# Altium footprint library BGA_Sq_100P.PcbLib: 114 footprints (part 20 of 31)
Each footprint in its own frame and in the unit in brackets; x right, y up, seen from the top. Pads: shape width x height; smd on the part's side, far side on the other; paste and mask are expansions set on the pad; w line width, h text height; cw(c..) or ccw(c..) is an arc to the next point about the centre after c.
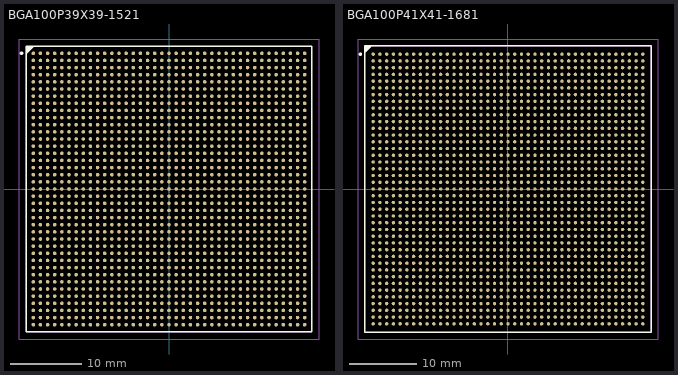
[diagram p19: the footprints below, top view; thin cyan lines are the x and y axes]

## BGA100P39X39-1521 [mm] "BGA, 1521-Leads, Body 40x40mm, Pitch 1mm"
height 3.5
pads (1521):
  round 0.5 smd: A1(-19,19) A2(-18,19) A3(-17,19) A4(-16,19) A5(-15,19) A6(-14,19) A7(-13,19) A8(-12,19) A9(-11,19) A10(-10,19) A11(-9,19) A12(-8,19) A13(-7,19) A14(-6,19) A15(-5,19) A16(-4,19) A17(-3,19) A18(-2,19) A19(-1,19) A20(0,19) A21(1,19) A22(2,19) A23(3,19) A24(4,19) A25(5,19) A26(6,19) A27(7,19) A28(8,19) A29(9,19) A30(10,19) A31(11,19) A32(12,19) A33(13,19) A34(14,19) A35(15,19) A36(16,19) A37(17,19) A38(18,19) A39(19,19) AA1(-19,-1) AA2(-18,-1) AA3(-17,-1) AA4(-16,-1) AA5(-15,-1) AA6(-14,-1) AA7(-13,-1) AA8(-12,-1) AA9(-11,-1) AA10(-10,-1) AA11(-9,-1) AA12(-8,-1) AA13(-7,-1) AA14(-6,-1) AA15(-5,-1) AA16(-4,-1) AA17(-3,-1) AA18(-2,-1) AA19(-1,-1) AA20(0,-1) AA21(1,-1) AA22(2,-1) AA23(3,-1) AA24(4,-1) AA25(5,-1) AA26(6,-1) AA27(7,-1) AA28(8,-1) AA29(9,-1) AA30(10,-1) AA31(11,-1) AA32(12,-1) AA33(13,-1) AA34(14,-1) AA35(15,-1) AA36(16,-1) AA37(17,-1) AA38(18,-1) AA39(19,-1) AB1(-19,-2) AB2(-18,-2) AB3(-17,-2) AB4(-16,-2) AB5(-15,-2) AB6(-14,-2) AB7(-13,-2) AB8(-12,-2) AB9(-11,-2) AB10(-10,-2) AB11(-9,-2) AB12(-8,-2) AB13(-7,-2) AB14(-6,-2) AB15(-5,-2) AB16(-4,-2) AB17(-3,-2) AB18(-2,-2) AB19(-1,-2) AB20(0,-2) AB21(1,-2) AB22(2,-2) AB23(3,-2) AB24(4,-2) AB25(5,-2) AB26(6,-2) AB27(7,-2) AB28(8,-2) AB29(9,-2) AB30(10,-2) AB31(11,-2) AB32(12,-2) AB33(13,-2) AB34(14,-2) AB35(15,-2) AB36(16,-2) AB37(17,-2) AB38(18,-2) AB39(19,-2) AC1(-19,-3) AC2(-18,-3) AC3(-17,-3) AC4(-16,-3) AC5(-15,-3) AC6(-14,-3) AC7(-13,-3) AC8(-12,-3) AC9(-11,-3) AC10(-10,-3) AC11(-9,-3) AC12(-8,-3) AC13(-7,-3) AC14(-6,-3) AC15(-5,-3) AC16(-4,-3) AC17(-3,-3) AC18(-2,-3) AC19(-1,-3) AC20(0,-3) AC21(1,-3) AC22(2,-3) AC23(3,-3) AC24(4,-3) AC25(5,-3) AC26(6,-3) AC27(7,-3) AC28(8,-3) AC29(9,-3) AC30(10,-3) AC31(11,-3) AC32(12,-3) AC33(13,-3) AC34(14,-3) AC35(15,-3) AC36(16,-3) AC37(17,-3) AC38(18,-3) AC39(19,-3) AD1(-19,-4) AD2(-18,-4) AD3(-17,-4) AD4(-16,-4) AD5(-15,-4) AD6(-14,-4) AD7(-13,-4) AD8(-12,-4) AD9(-11,-4) AD10(-10,-4) AD11(-9,-4) AD12(-8,-4) AD13(-7,-4) AD14(-6,-4) AD15(-5,-4) AD16(-4,-4) AD17(-3,-4) AD18(-2,-4) AD19(-1,-4) AD20(0,-4) AD21(1,-4) AD22(2,-4) AD23(3,-4) AD24(4,-4) AD25(5,-4) AD26(6,-4) AD27(7,-4) AD28(8,-4) AD29(9,-4) AD30(10,-4) AD31(11,-4) AD32(12,-4) AD33(13,-4) AD34(14,-4) AD35(15,-4) AD36(16,-4) AD37(17,-4) AD38(18,-4) AD39(19,-4) AE1(-19,-5) AE2(-18,-5) AE3(-17,-5) AE4(-16,-5) AE5(-15,-5) AE6(-14,-5) AE7(-13,-5) AE8(-12,-5) AE9(-11,-5) AE10(-10,-5) AE11(-9,-5) AE12(-8,-5) AE13(-7,-5) AE14(-6,-5) AE15(-5,-5) AE16(-4,-5) AE17(-3,-5) AE18(-2,-5) AE19(-1,-5) AE20(0,-5) AE21(1,-5) AE22(2,-5) AE23(3,-5) AE24(4,-5) AE25(5,-5) AE26(6,-5) AE27(7,-5) AE28(8,-5) AE29(9,-5) AE30(10,-5) AE31(11,-5) AE32(12,-5) AE33(13,-5) AE34(14,-5) AE35(15,-5) AE36(16,-5) AE37(17,-5) AE38(18,-5) AE39(19,-5) AF1(-19,-6) AF2(-18,-6) AF3(-17,-6) AF4(-16,-6) AF5(-15,-6) AF6(-14,-6) AF7(-13,-6) AF8(-12,-6) AF9(-11,-6) AF10(-10,-6) AF11(-9,-6) AF12(-8,-6) AF13(-7,-6) AF14(-6,-6) AF15(-5,-6) AF16(-4,-6) AF17(-3,-6) AF18(-2,-6) AF19(-1,-6) AF20(0,-6) AF21(1,-6) AF22(2,-6) AF23(3,-6) AF24(4,-6) AF25(5,-6) AF26(6,-6) AF27(7,-6) AF28(8,-6) AF29(9,-6) AF30(10,-6) AF31(11,-6) AF32(12,-6) AF33(13,-6) AF34(14,-6) AF35(15,-6) AF36(16,-6) AF37(17,-6) AF38(18,-6) AF39(19,-6) AG1(-19,-7) AG2(-18,-7) AG3(-17,-7) AG4(-16,-7) AG5(-15,-7) AG6(-14,-7) AG7(-13,-7) AG8(-12,-7) AG9(-11,-7) AG10(-10,-7) AG11(-9,-7) AG12(-8,-7) AG13(-7,-7) AG14(-6,-7) AG15(-5,-7) AG16(-4,-7) AG17(-3,-7) AG18(-2,-7) AG19(-1,-7) AG20(0,-7) AG21(1,-7) AG22(2,-7) AG23(3,-7) AG24(4,-7) AG25(5,-7) AG26(6,-7) AG27(7,-7) AG28(8,-7) AG29(9,-7) AG30(10,-7) AG31(11,-7) AG32(12,-7) AG33(13,-7) AG34(14,-7) AG35(15,-7) AG36(16,-7) AG37(17,-7) AG38(18,-7) AG39(19,-7) AH1(-19,-8) AH2(-18,-8) AH3(-17,-8) AH4(-16,-8) AH5(-15,-8) AH6(-14,-8) AH7(-13,-8) AH8(-12,-8) AH9(-11,-8) AH10(-10,-8) AH11(-9,-8) AH12(-8,-8) AH13(-7,-8) AH14(-6,-8) AH15(-5,-8) AH16(-4,-8) AH17(-3,-8) AH18(-2,-8) AH19(-1,-8) AH20(0,-8) AH21(1,-8) AH22(2,-8) AH23(3,-8) AH24(4,-8) AH25(5,-8) AH26(6,-8) AH27(7,-8) AH28(8,-8) AH29(9,-8) AH30(10,-8) AH31(11,-8) AH32(12,-8) AH33(13,-8) AH34(14,-8) AH35(15,-8) AH36(16,-8) AH37(17,-8) AH38(18,-8) AH39(19,-8) AJ1(-19,-9) AJ2(-18,-9) AJ3(-17,-9) AJ4(-16,-9) AJ5(-15,-9) AJ6(-14,-9) AJ7(-13,-9) AJ8(-12,-9) AJ9(-11,-9) AJ10(-10,-9) AJ11(-9,-9) AJ12(-8,-9) AJ13(-7,-9) AJ14(-6,-9) AJ15(-5,-9) AJ16(-4,-9) AJ17(-3,-9) AJ18(-2,-9) AJ19(-1,-9) AJ20(0,-9) AJ21(1,-9) AJ22(2,-9) AJ23(3,-9) AJ24(4,-9) AJ25(5,-9) AJ26(6,-9) AJ27(7,-9) AJ28(8,-9) AJ29(9,-9) AJ30(10,-9) AJ31(11,-9) AJ32(12,-9) AJ33(13,-9) AJ34(14,-9) AJ35(15,-9) AJ36(16,-9) AJ37(17,-9) AJ38(18,-9) AJ39(19,-9) AK1(-19,-10) AK2(-18,-10) AK3(-17,-10) AK4(-16,-10) AK5(-15,-10) AK6(-14,-10) AK7(-13,-10) AK8(-12,-10) AK9(-11,-10) AK10(-10,-10) AK11(-9,-10) AK12(-8,-10) AK13(-7,-10) AK14(-6,-10) AK15(-5,-10) AK16(-4,-10) AK17(-3,-10) AK18(-2,-10) AK19(-1,-10) AK20(0,-10) AK21(1,-10) AK22(2,-10) AK23(3,-10) AK24(4,-10) AK25(5,-10) AK26(6,-10) AK27(7,-10) AK28(8,-10) AK29(9,-10) AK30(10,-10) AK31(11,-10) AK32(12,-10) AK33(13,-10) AK34(14,-10) AK35(15,-10) AK36(16,-10) AK37(17,-10) AK38(18,-10) AK39(19,-10) AL1(-19,-11) AL2(-18,-11) AL3(-17,-11) AL4(-16,-11) AL5(-15,-11) AL6(-14,-11) AL7(-13,-11) AL8(-12,-11) AL9(-11,-11) AL10(-10,-11) AL11(-9,-11) AL12(-8,-11) AL13(-7,-11) AL14(-6,-11) AL15(-5,-11) AL16(-4,-11) AL17(-3,-11) AL18(-2,-11) AL19(-1,-11) AL20(0,-11) AL21(1,-11) AL22(2,-11) AL23(3,-11) AL24(4,-11) AL25(5,-11) AL26(6,-11) AL27(7,-11) AL28(8,-11) AL29(9,-11) AL30(10,-11) AL31(11,-11) AL32(12,-11) AL33(13,-11) AL34(14,-11) AL35(15,-11) AL36(16,-11) AL37(17,-11) AL38(18,-11) AL39(19,-11) AM1(-19,-12) AM2(-18,-12) AM3(-17,-12) AM4(-16,-12) AM5(-15,-12) AM6(-14,-12) AM7(-13,-12) AM8(-12,-12) AM9(-11,-12) AM10(-10,-12) AM11(-9,-12) AM12(-8,-12) AM13(-7,-12) AM14(-6,-12) AM15(-5,-12) AM16(-4,-12) AM17(-3,-12) AM18(-2,-12) AM19(-1,-12) AM20(0,-12) AM21(1,-12) AM22(2,-12) AM23(3,-12) AM24(4,-12) AM25(5,-12) AM26(6,-12) AM27(7,-12) AM28(8,-12) AM29(9,-12) AM30(10,-12) AM31(11,-12) AM32(12,-12) AM33(13,-12) AM34(14,-12) AM35(15,-12) AM36(16,-12) AM37(17,-12) AM38(18,-12) AM39(19,-12) AN1(-19,-13) AN2(-18,-13) AN3(-17,-13) AN4(-16,-13) AN5(-15,-13) AN6(-14,-13) AN7(-13,-13) AN8(-12,-13) AN9(-11,-13) AN10(-10,-13) AN11(-9,-13) AN12(-8,-13) AN13(-7,-13) AN14(-6,-13) AN15(-5,-13) AN16(-4,-13) AN17(-3,-13) AN18(-2,-13) AN19(-1,-13) AN20(0,-13) AN21(1,-13) AN22(2,-13) AN23(3,-13) AN24(4,-13) AN25(5,-13) AN26(6,-13) AN27(7,-13) AN28(8,-13) AN29(9,-13) AN30(10,-13) AN31(11,-13) AN32(12,-13) AN33(13,-13) AN34(14,-13) AN35(15,-13) AN36(16,-13) AN37(17,-13) AN38(18,-13) AN39(19,-13) AP1(-19,-14) AP2(-18,-14) AP3(-17,-14) AP4(-16,-14) AP5(-15,-14) AP6(-14,-14) AP7(-13,-14) AP8(-12,-14) AP9(-11,-14) AP10(-10,-14) AP11(-9,-14) AP12(-8,-14) AP13(-7,-14) AP14(-6,-14) AP15(-5,-14) AP16(-4,-14) AP17(-3,-14) AP18(-2,-14) AP19(-1,-14) AP20(0,-14) AP21(1,-14) AP22(2,-14) AP23(3,-14) AP24(4,-14) AP25(5,-14) AP26(6,-14) AP27(7,-14) AP28(8,-14) AP29(9,-14) AP30(10,-14) AP31(11,-14) AP32(12,-14) AP33(13,-14) AP34(14,-14) AP35(15,-14) AP36(16,-14) AP37(17,-14) AP38(18,-14) AP39(19,-14) AR1(-19,-15) AR2(-18,-15) AR3(-17,-15) AR4(-16,-15) AR5(-15,-15) AR6(-14,-15) AR7(-13,-15) AR8(-12,-15) AR9(-11,-15) AR10(-10,-15) AR11(-9,-15) AR12(-8,-15) AR13(-7,-15) AR14(-6,-15) AR15(-5,-15) AR16(-4,-15) AR17(-3,-15) AR18(-2,-15) AR19(-1,-15) AR20(0,-15) AR21(1,-15) AR22(2,-15) AR23(3,-15) AR24(4,-15) AR25(5,-15) AR26(6,-15) AR27(7,-15) AR28(8,-15) AR29(9,-15) AR30(10,-15) AR31(11,-15) AR32(12,-15) AR33(13,-15) AR34(14,-15) AR35(15,-15) AR36(16,-15) AR37(17,-15) AR38(18,-15) AR39(19,-15) AT1(-19,-16) AT2(-18,-16) AT3(-17,-16) AT4(-16,-16) AT5(-15,-16) AT6(-14,-16) AT7(-13,-16) AT8(-12,-16) AT9(-11,-16) AT10(-10,-16) AT11(-9,-16) AT12(-8,-16) AT13(-7,-16) AT14(-6,-16) AT15(-5,-16) AT16(-4,-16) AT17(-3,-16) AT18(-2,-16) AT19(-1,-16) AT20(0,-16) AT21(1,-16) AT22(2,-16) AT23(3,-16) AT24(4,-16) AT25(5,-16) AT26(6,-16) AT27(7,-16) AT28(8,-16) AT29(9,-16) AT30(10,-16) AT31(11,-16) AT32(12,-16) AT33(13,-16) AT34(14,-16) AT35(15,-16) AT36(16,-16) AT37(17,-16) AT38(18,-16) AT39(19,-16) AU1(-19,-17) AU2(-18,-17) AU3(-17,-17) AU4(-16,-17) AU5(-15,-17) AU6(-14,-17) AU7(-13,-17) AU8(-12,-17) AU9(-11,-17) AU10(-10,-17) AU11(-9,-17) AU12(-8,-17) AU13(-7,-17) AU14(-6,-17) AU15(-5,-17) AU16(-4,-17) AU17(-3,-17) AU18(-2,-17) AU19(-1,-17) AU20(0,-17) AU21(1,-17) AU22(2,-17) AU23(3,-17) AU24(4,-17) AU25(5,-17) AU26(6,-17) AU27(7,-17) AU28(8,-17) AU29(9,-17) AU30(10,-17) AU31(11,-17) AU32(12,-17) AU33(13,-17) AU34(14,-17) AU35(15,-17) AU36(16,-17) AU37(17,-17) AU38(18,-17) AU39(19,-17) AV1(-19,-18) AV2(-18,-18) AV3(-17,-18) AV4(-16,-18) AV5(-15,-18) AV6(-14,-18) AV7(-13,-18) AV8(-12,-18) AV9(-11,-18) AV10(-10,-18) AV11(-9,-18) AV12(-8,-18) AV13(-7,-18) AV14(-6,-18) AV15(-5,-18) AV16(-4,-18) AV17(-3,-18) AV18(-2,-18) AV19(-1,-18) AV20(0,-18) AV21(1,-18) AV22(2,-18) AV23(3,-18) AV24(4,-18) AV25(5,-18) AV26(6,-18) AV27(7,-18) AV28(8,-18) AV29(9,-18) AV30(10,-18) AV31(11,-18) AV32(12,-18) AV33(13,-18) AV34(14,-18) AV35(15,-18) AV36(16,-18) AV37(17,-18) AV38(18,-18) AV39(19,-18) AW1(-19,-19) AW2(-18,-19) AW3(-17,-19) AW4(-16,-19) AW5(-15,-19) AW6(-14,-19) AW7(-13,-19) AW8(-12,-19) AW9(-11,-19) AW10(-10,-19) AW11(-9,-19) AW12(-8,-19) AW13(-7,-19) AW14(-6,-19) AW15(-5,-19) AW16(-4,-19) AW17(-3,-19) AW18(-2,-19) AW19(-1,-19) AW20(0,-19) AW21(1,-19) AW22(2,-19) AW23(3,-19) AW24(4,-19) AW25(5,-19) AW26(6,-19) AW27(7,-19) AW28(8,-19) AW29(9,-19) AW30(10,-19) AW31(11,-19) AW32(12,-19) AW33(13,-19) AW34(14,-19) AW35(15,-19) AW36(16,-19) AW37(17,-19) AW38(18,-19) AW39(19,-19) B1(-19,18) B2(-18,18) B3(-17,18) B4(-16,18) B5(-15,18) B6(-14,18) B7(-13,18) B8(-12,18) B9(-11,18) B10(-10,18) B11(-9,18) B12(-8,18) B13(-7,18) B14(-6,18) B15(-5,18) B16(-4,18) B17(-3,18) B18(-2,18) B19(-1,18) B20(0,18) B21(1,18) B22(2,18) B23(3,18) B24(4,18) B25(5,18) B26(6,18) B27(7,18) B28(8,18) B29(9,18) B30(10,18) B31(11,18) B32(12,18) B33(13,18) B34(14,18) B35(15,18) B36(16,18) B37(17,18) B38(18,18) B39(19,18) C1(-19,17) C2(-18,17) C3(-17,17) C4(-16,17) C5(-15,17) C6(-14,17) C7(-13,17) C8(-12,17) C9(-11,17) C10(-10,17) C11(-9,17) C12(-8,17) C13(-7,17) C14(-6,17) C15(-5,17) C16(-4,17) C17(-3,17) C18(-2,17) C19(-1,17) C20(0,17) C21(1,17) C22(2,17) C23(3,17) C24(4,17) C25(5,17) C26(6,17) C27(7,17) C28(8,17) C29(9,17) C30(10,17) C31(11,17) C32(12,17) C33(13,17) C34(14,17) C35(15,17) C36(16,17) C37(17,17) C38(18,17) C39(19,17) D1(-19,16) D2(-18,16) D3(-17,16) D4(-16,16) D5(-15,16) D6(-14,16) D7(-13,16) D8(-12,16) D9(-11,16) D10(-10,16) D11(-9,16) D12(-8,16) D13(-7,16) D14(-6,16) D15(-5,16) D16(-4,16) D17(-3,16) D18(-2,16) D19(-1,16) D20(0,16) D21(1,16) D22(2,16) D23(3,16) D24(4,16) D25(5,16) D26(6,16) D27(7,16) D28(8,16) D29(9,16) D30(10,16) D31(11,16) D32(12,16) D33(13,16) D34(14,16) D35(15,16) D36(16,16) D37(17,16) D38(18,16) D39(19,16) E1(-19,15) E2(-18,15) E3(-17,15) E4(-16,15) E5(-15,15) E6(-14,15) E7(-13,15) E8(-12,15) E9(-11,15) E10(-10,15) E11(-9,15) E12(-8,15) E13(-7,15) E14(-6,15) E15(-5,15) E16(-4,15) E17(-3,15) E18(-2,15) E19(-1,15) E20(0,15) E21(1,15) E22(2,15) E23(3,15) E24(4,15) E25(5,15) E26(6,15) E27(7,15) E28(8,15) E29(9,15) E30(10,15) E31(11,15) E32(12,15) E33(13,15) E34(14,15) E35(15,15) E36(16,15) E37(17,15) E38(18,15) E39(19,15) F1(-19,14) F2(-18,14) F3(-17,14) F4(-16,14) F5(-15,14) F6(-14,14) F7(-13,14) F8(-12,14) F9(-11,14) F10(-10,14) F11(-9,14) F12(-8,14) F13(-7,14) F14(-6,14) F15(-5,14) F16(-4,14) F17(-3,14) F18(-2,14) F19(-1,14) F20(0,14) F21(1,14) F22(2,14) F23(3,14) F24(4,14) F25(5,14) F26(6,14) F27(7,14) F28(8,14) F29(9,14) F30(10,14) F31(11,14) F32(12,14) F33(13,14) F34(14,14) F35(15,14) F36(16,14) F37(17,14) F38(18,14) F39(19,14) G1(-19,13) G2(-18,13) G3(-17,13) G4(-16,13) G5(-15,13) G6(-14,13) G7(-13,13) G8(-12,13) G9(-11,13) G10(-10,13) G11(-9,13) G12(-8,13) G13(-7,13) G14(-6,13) G15(-5,13) G16(-4,13) G17(-3,13) G18(-2,13) G19(-1,13) G20(0,13) G21(1,13) G22(2,13) G23(3,13) G24(4,13) G25(5,13) G26(6,13) G27(7,13) G28(8,13) G29(9,13) G30(10,13) G31(11,13) G32(12,13) G33(13,13) G34(14,13) G35(15,13) G36(16,13) G37(17,13) G38(18,13) G39(19,13) H1(-19,12) H2(-18,12) H3(-17,12) H4(-16,12) H5(-15,12) H6(-14,12) H7(-13,12) H8(-12,12) H9(-11,12) H10(-10,12) H11(-9,12) H12(-8,12) H13(-7,12) H14(-6,12) H15(-5,12) H16(-4,12) H17(-3,12) H18(-2,12) H19(-1,12) H20(0,12) H21(1,12) H22(2,12) H23(3,12) H24(4,12) H25(5,12) H26(6,12) H27(7,12) H28(8,12) H29(9,12) H30(10,12) H31(11,12) H32(12,12) H33(13,12) H34(14,12) H35(15,12) H36(16,12) H37(17,12) H38(18,12) H39(19,12) J1(-19,11) J2(-18,11) J3(-17,11) J4(-16,11) J5(-15,11) J6(-14,11) J7(-13,11) J8(-12,11) J9(-11,11) J10(-10,11) J11(-9,11) J12(-8,11) J13(-7,11) J14(-6,11) J15(-5,11) J16(-4,11) J17(-3,11) J18(-2,11) J19(-1,11) J20(0,11) J21(1,11) J22(2,11) J23(3,11) J24(4,11) J25(5,11) J26(6,11) J27(7,11) J28(8,11) J29(9,11) J30(10,11) J31(11,11) J32(12,11) J33(13,11) J34(14,11) J35(15,11) J36(16,11) J37(17,11) J38(18,11) J39(19,11) K1(-19,10) K2(-18,10) K3(-17,10) K4(-16,10) K5(-15,10) K6(-14,10) K7(-13,10) K8(-12,10) K9(-11,10) K10(-10,10) K11(-9,10) K12(-8,10) K13(-7,10) K14(-6,10) K15(-5,10) K16(-4,10) K17(-3,10) K18(-2,10) K19(-1,10) K20(0,10) K21(1,10) K22(2,10) K23(3,10) K24(4,10) K25(5,10) K26(6,10) K27(7,10) K28(8,10) K29(9,10) K30(10,10) K31(11,10) K32(12,10) K33(13,10) K34(14,10) K35(15,10) K36(16,10) K37(17,10) K38(18,10) K39(19,10) L1(-19,9) L2(-18,9) L3(-17,9) L4(-16,9) L5(-15,9) L6(-14,9) L7(-13,9) L8(-12,9) L9(-11,9) L10(-10,9) L11(-9,9) L12(-8,9) L13(-7,9) L14(-6,9) L15(-5,9) L16(-4,9) L17(-3,9) L18(-2,9) L19(-1,9) L20(0,9) L21(1,9) L22(2,9) L23(3,9) L24(4,9) L25(5,9) L26(6,9) L27(7,9) L28(8,9) L29(9,9) L30(10,9) L31(11,9) L32(12,9) L33(13,9) L34(14,9) L35(15,9) L36(16,9) L37(17,9) L38(18,9) L39(19,9) M1(-19,8) M2(-18,8) M3(-17,8) M4(-16,8) M5(-15,8) M6(-14,8) M7(-13,8) M8(-12,8) M9(-11,8) M10(-10,8) M11(-9,8) M12(-8,8) M13(-7,8) M14(-6,8) M15(-5,8) M16(-4,8) M17(-3,8) M18(-2,8) M19(-1,8) M20(0,8) M21(1,8) M22(2,8) M23(3,8) M24(4,8) M25(5,8) M26(6,8) M27(7,8) M28(8,8) M29(9,8) M30(10,8) M31(11,8) M32(12,8) M33(13,8) M34(14,8) M35(15,8) M36(16,8) M37(17,8) M38(18,8) M39(19,8) N1(-19,7) N2(-18,7) N3(-17,7) N4(-16,7) N5(-15,7) N6(-14,7) N7(-13,7) N8(-12,7) N9(-11,7) N10(-10,7) N11(-9,7) N12(-8,7) N13(-7,7) N14(-6,7) N15(-5,7) N16(-4,7) N17(-3,7) N18(-2,7) N19(-1,7) N20(0,7) N21(1,7) N22(2,7) N23(3,7) N24(4,7) N25(5,7) N26(6,7) N27(7,7) N28(8,7) N29(9,7) N30(10,7) N31(11,7) N32(12,7) N33(13,7) N34(14,7) N35(15,7) N36(16,7) N37(17,7) N38(18,7) N39(19,7) P1(-19,6) P2(-18,6) P3(-17,6) P4(-16,6) P5(-15,6) P6(-14,6) P7(-13,6) P8(-12,6) P9(-11,6) P10(-10,6) P11(-9,6) P12(-8,6) P13(-7,6) P14(-6,6) P15(-5,6) P16(-4,6) P17(-3,6) P18(-2,6) P19(-1,6) P20(0,6) P21(1,6) P22(2,6) P23(3,6) P24(4,6) P25(5,6) P26(6,6) P27(7,6) P28(8,6) P29(9,6) P30(10,6) P31(11,6) P32(12,6) P33(13,6) P34(14,6) P35(15,6) P36(16,6) P37(17,6) P38(18,6) P39(19,6) R1(-19,5) R2(-18,5) R3(-17,5) R4(-16,5) R5(-15,5) R6(-14,5) R7(-13,5) R8(-12,5) R9(-11,5) R10(-10,5) R11(-9,5) R12(-8,5) R13(-7,5) R14(-6,5) R15(-5,5) R16(-4,5) R17(-3,5) R18(-2,5) R19(-1,5) R20(0,5) R21(1,5) R22(2,5) R23(3,5) R24(4,5) R25(5,5) R26(6,5) R27(7,5) R28(8,5) R29(9,5) R30(10,5) R31(11,5) R32(12,5) R33(13,5) R34(14,5) R35(15,5) R36(16,5) R37(17,5) R38(18,5) R39(19,5) T1(-19,4) T2(-18,4) T3(-17,4) T4(-16,4) T5(-15,4) T6(-14,4) T7(-13,4) T8(-12,4) T9(-11,4) T10(-10,4) T11(-9,4) T12(-8,4) T13(-7,4) T14(-6,4) T15(-5,4) T16(-4,4) T17(-3,4) T18(-2,4) T19(-1,4) T20(0,4) T21(1,4) T22(2,4) T23(3,4) T24(4,4) T25(5,4) T26(6,4) T27(7,4) T28(8,4) T29(9,4) T30(10,4) T31(11,4) T32(12,4) T33(13,4) T34(14,4) T35(15,4) T36(16,4) T37(17,4) T38(18,4) T39(19,4) U1(-19,3) U2(-18,3) U3(-17,3) U4(-16,3) U5(-15,3) U6(-14,3) U7(-13,3) U8(-12,3) U9(-11,3) U10(-10,3) U11(-9,3) U12(-8,3) U13(-7,3) U14(-6,3) U15(-5,3) U16(-4,3) U17(-3,3) U18(-2,3) U19(-1,3) U20(0,3) U21(1,3) U22(2,3) U23(3,3) U24(4,3) U25(5,3) U26(6,3) U27(7,3) U28(8,3) U29(9,3) U30(10,3) U31(11,3) U32(12,3) U33(13,3) U34(14,3) U35(15,3) U36(16,3) U37(17,3) U38(18,3) U39(19,3) V1(-19,2) V2(-18,2) V3(-17,2) V4(-16,2) V5(-15,2) V6(-14,2) V7(-13,2) V8(-12,2) V9(-11,2) V10(-10,2) V11(-9,2) V12(-8,2) V13(-7,2) V14(-6,2) V15(-5,2) V16(-4,2) V17(-3,2) V18(-2,2) V19(-1,2) V20(0,2) V21(1,2) V22(2,2) V23(3,2) V24(4,2) V25(5,2) V26(6,2) V27(7,2) V28(8,2) V29(9,2) V30(10,2) V31(11,2) V32(12,2) V33(13,2) V34(14,2) V35(15,2) V36(16,2) V37(17,2) V38(18,2) V39(19,2) W1(-19,1) W2(-18,1) W3(-17,1) W4(-16,1) W5(-15,1) W6(-14,1) W7(-13,1) W8(-12,1) W9(-11,1) W10(-10,1) W11(-9,1) W12(-8,1) W13(-7,1) W14(-6,1) W15(-5,1) W16(-4,1) W17(-3,1) W18(-2,1) W19(-1,1) W20(0,1) W21(1,1) W22(2,1) W23(3,1) W24(4,1) W25(5,1) W26(6,1) W27(7,1) W28(8,1) W29(9,1) W30(10,1) W31(11,1) W32(12,1) W33(13,1) W34(14,1) W35(15,1) W36(16,1) W37(17,1) W38(18,1) W39(19,1) Y1(-19,0) Y2(-18,0) Y3(-17,0) Y4(-16,0) Y5(-15,0) Y6(-14,0) Y7(-13,0) Y8(-12,0) Y9(-11,0) Y10(-10,0) Y11(-9,0) Y12(-8,0) Y13(-7,0) Y14(-6,0) Y15(-5,0) Y16(-4,0) Y17(-3,0) Y18(-2,0) Y19(-1,0) Y20(0,0) Y21(1,0) Y22(2,0) Y23(3,0) Y24(4,0) Y25(5,0) Y26(6,0) Y27(7,0) Y28(8,0) Y29(9,0) Y30(10,0) Y31(11,0) Y32(12,0) Y33(13,0) Y34(14,0) Y35(15,0) Y36(16,0) Y37(17,0) Y38(18,0) Y39(19,0)
Top Overlay:
  circle w0.25: c-20.65,19 r0.125
  region: -19,20 -20,19 -20,20
  lines w0.2: -20,19 -19,20 ; -20,-20 -20,20 20,20 20,-20 -20,-20
Mechanical 13:
  lines w0.1: -20,-20 -20,20 20,20 20,-20 -20,-20
Mechanical 15:
  lines w0.1: -0.5,0 0.5,0 ; 0,-0.5 0,0.5 ; -21,-21 -21,21 21,21 21,-21 -21,-21
3D body: height 0, standoff 0, extent -20,-20 20,20

## BGA100P41X41-1681 [mm] "BGA, 1681-Leads, Body 42.5x42.5mm, Pitch 1mm"
height 3.5
pads (1681):
  round 0.5 smd: A1(-20,20) A2(-19,20) A3(-18,20) A4(-17,20) A5(-16,20) A6(-15,20) A7(-14,20) A8(-13,20) A9(-12,20) A10(-11,20) A11(-10,20) A12(-9,20) A13(-8,20) A14(-7,20) A15(-6,20) A16(-5,20) A17(-4,20) A18(-3,20) A19(-2,20) A20(-1,20) A21(0,20) A22(1,20) A23(2,20) A24(3,20) A25(4,20) A26(5,20) A27(6,20) A28(7,20) A29(8,20) A30(9,20) A31(10,20) A32(11,20) A33(12,20) A34(13,20) A35(14,20) A36(15,20) A37(16,20) A38(17,20) A39(18,20) A40(19,20) A41(20,20) AA1(-20,0) AA2(-19,0) AA3(-18,0) AA4(-17,0) AA5(-16,0) AA6(-15,0) AA7(-14,0) AA8(-13,0) AA9(-12,0) AA10(-11,0) AA11(-10,0) AA12(-9,0) AA13(-8,0) AA14(-7,0) AA15(-6,0) AA16(-5,0) AA17(-4,0) AA18(-3,0) AA19(-2,0) AA20(-1,0) AA21(0,0) AA22(1,0) AA23(2,0) AA24(3,0) AA25(4,0) AA26(5,0) AA27(6,0) AA28(7,0) AA29(8,0) AA30(9,0) AA31(10,0) AA32(11,0) AA33(12,0) AA34(13,0) AA35(14,0) AA36(15,0) AA37(16,0) AA38(17,0) AA39(18,0) AA40(19,0) AA41(20,0) AB1(-20,-1) AB2(-19,-1) AB3(-18,-1) AB4(-17,-1) AB5(-16,-1) AB6(-15,-1) AB7(-14,-1) AB8(-13,-1) AB9(-12,-1) AB10(-11,-1) AB11(-10,-1) AB12(-9,-1) AB13(-8,-1) AB14(-7,-1) AB15(-6,-1) AB16(-5,-1) AB17(-4,-1) AB18(-3,-1) AB19(-2,-1) AB20(-1,-1) AB21(0,-1) AB22(1,-1) AB23(2,-1) AB24(3,-1) AB25(4,-1) AB26(5,-1) AB27(6,-1) AB28(7,-1) AB29(8,-1) AB30(9,-1) AB31(10,-1) AB32(11,-1) AB33(12,-1) AB34(13,-1) AB35(14,-1) AB36(15,-1) AB37(16,-1) AB38(17,-1) AB39(18,-1) AB40(19,-1) AB41(20,-1) AC1(-20,-2) AC2(-19,-2) AC3(-18,-2) AC4(-17,-2) AC5(-16,-2) AC6(-15,-2) AC7(-14,-2) AC8(-13,-2) AC9(-12,-2) AC10(-11,-2) AC11(-10,-2) AC12(-9,-2) AC13(-8,-2) AC14(-7,-2) AC15(-6,-2) AC16(-5,-2) AC17(-4,-2) AC18(-3,-2) AC19(-2,-2) AC20(-1,-2) AC21(0,-2) AC22(1,-2) AC23(2,-2) AC24(3,-2) AC25(4,-2) AC26(5,-2) AC27(6,-2) AC28(7,-2) AC29(8,-2) AC30(9,-2) AC31(10,-2) AC32(11,-2) AC33(12,-2) AC34(13,-2) AC35(14,-2) AC36(15,-2) AC37(16,-2) AC38(17,-2) AC39(18,-2) AC40(19,-2) AC41(20,-2) AD1(-20,-3) AD2(-19,-3) AD3(-18,-3) AD4(-17,-3) AD5(-16,-3) AD6(-15,-3) AD7(-14,-3) AD8(-13,-3) AD9(-12,-3) AD10(-11,-3) AD11(-10,-3) AD12(-9,-3) AD13(-8,-3) AD14(-7,-3) AD15(-6,-3) AD16(-5,-3) AD17(-4,-3) AD18(-3,-3) AD19(-2,-3) AD20(-1,-3) AD21(0,-3) AD22(1,-3) AD23(2,-3) AD24(3,-3) AD25(4,-3) AD26(5,-3) AD27(6,-3) AD28(7,-3) AD29(8,-3) AD30(9,-3) AD31(10,-3) AD32(11,-3) AD33(12,-3) AD34(13,-3) AD35(14,-3) AD36(15,-3) AD37(16,-3) AD38(17,-3) AD39(18,-3) AD40(19,-3) AD41(20,-3) AE1(-20,-4) AE2(-19,-4) AE3(-18,-4) AE4(-17,-4) AE5(-16,-4) AE6(-15,-4) AE7(-14,-4) AE8(-13,-4) AE9(-12,-4) AE10(-11,-4) AE11(-10,-4) AE12(-9,-4) AE13(-8,-4) AE14(-7,-4) AE15(-6,-4) AE16(-5,-4) AE17(-4,-4) AE18(-3,-4) AE19(-2,-4) AE20(-1,-4) AE21(0,-4) AE22(1,-4) AE23(2,-4) AE24(3,-4) AE25(4,-4) AE26(5,-4) AE27(6,-4) AE28(7,-4) AE29(8,-4) AE30(9,-4) AE31(10,-4) AE32(11,-4) AE33(12,-4) AE34(13,-4) AE35(14,-4) AE36(15,-4) AE37(16,-4) AE38(17,-4) AE39(18,-4) AE40(19,-4) AE41(20,-4) AF1(-20,-5) AF2(-19,-5) AF3(-18,-5) AF4(-17,-5) AF5(-16,-5) AF6(-15,-5) AF7(-14,-5) AF8(-13,-5) AF9(-12,-5) AF10(-11,-5) AF11(-10,-5) AF12(-9,-5) AF13(-8,-5) AF14(-7,-5) AF15(-6,-5) AF16(-5,-5) AF17(-4,-5) AF18(-3,-5) AF19(-2,-5) AF20(-1,-5) AF21(0,-5) AF22(1,-5) AF23(2,-5) AF24(3,-5) AF25(4,-5) AF26(5,-5) AF27(6,-5) AF28(7,-5) AF29(8,-5) AF30(9,-5) AF31(10,-5) AF32(11,-5) AF33(12,-5) AF34(13,-5) AF35(14,-5) AF36(15,-5) AF37(16,-5) AF38(17,-5) AF39(18,-5) AF40(19,-5) AF41(20,-5) AG1(-20,-6) AG2(-19,-6) AG3(-18,-6) AG4(-17,-6) AG5(-16,-6) AG6(-15,-6) AG7(-14,-6) AG8(-13,-6) AG9(-12,-6) AG10(-11,-6) AG11(-10,-6) AG12(-9,-6) AG13(-8,-6) AG14(-7,-6) AG15(-6,-6) AG16(-5,-6) AG17(-4,-6) AG18(-3,-6) AG19(-2,-6) AG20(-1,-6) AG21(0,-6) AG22(1,-6) AG23(2,-6) AG24(3,-6) AG25(4,-6) AG26(5,-6) AG27(6,-6) AG28(7,-6) AG29(8,-6) AG30(9,-6) AG31(10,-6) AG32(11,-6) AG33(12,-6) AG34(13,-6) AG35(14,-6) AG36(15,-6) AG37(16,-6) AG38(17,-6) AG39(18,-6) AG40(19,-6) AG41(20,-6) AH1(-20,-7) AH2(-19,-7) AH3(-18,-7) AH4(-17,-7) AH5(-16,-7) AH6(-15,-7) AH7(-14,-7) AH8(-13,-7) AH9(-12,-7) AH10(-11,-7) AH11(-10,-7) AH12(-9,-7) AH13(-8,-7) AH14(-7,-7) AH15(-6,-7) AH16(-5,-7) AH17(-4,-7) AH18(-3,-7) AH19(-2,-7) AH20(-1,-7) AH21(0,-7) AH22(1,-7) AH23(2,-7) AH24(3,-7) AH25(4,-7) AH26(5,-7) AH27(6,-7) AH28(7,-7) AH29(8,-7) AH30(9,-7) AH31(10,-7) AH32(11,-7) AH33(12,-7) AH34(13,-7) AH35(14,-7) AH36(15,-7) AH37(16,-7) AH38(17,-7) AH39(18,-7) AH40(19,-7) AH41(20,-7) AJ1(-20,-8) AJ2(-19,-8) AJ3(-18,-8) AJ4(-17,-8) AJ5(-16,-8) AJ6(-15,-8) AJ7(-14,-8) AJ8(-13,-8) AJ9(-12,-8) AJ10(-11,-8) AJ11(-10,-8) AJ12(-9,-8) AJ13(-8,-8) AJ14(-7,-8) AJ15(-6,-8) AJ16(-5,-8) AJ17(-4,-8) AJ18(-3,-8) AJ19(-2,-8) AJ20(-1,-8) AJ21(0,-8) AJ22(1,-8) AJ23(2,-8) AJ24(3,-8) AJ25(4,-8) AJ26(5,-8) AJ27(6,-8) AJ28(7,-8) AJ29(8,-8) AJ30(9,-8) AJ31(10,-8) AJ32(11,-8) AJ33(12,-8) AJ34(13,-8) AJ35(14,-8) AJ36(15,-8) AJ37(16,-8) AJ38(17,-8) AJ39(18,-8) AJ40(19,-8) AJ41(20,-8) AK1(-20,-9) AK2(-19,-9) AK3(-18,-9) AK4(-17,-9) AK5(-16,-9) AK6(-15,-9) AK7(-14,-9) AK8(-13,-9) AK9(-12,-9) AK10(-11,-9) AK11(-10,-9) AK12(-9,-9) AK13(-8,-9) AK14(-7,-9) AK15(-6,-9) AK16(-5,-9) AK17(-4,-9) AK18(-3,-9) AK19(-2,-9) AK20(-1,-9) AK21(0,-9) AK22(1,-9) AK23(2,-9) AK24(3,-9) AK25(4,-9) AK26(5,-9) AK27(6,-9) AK28(7,-9) AK29(8,-9) AK30(9,-9) AK31(10,-9) AK32(11,-9) AK33(12,-9) AK34(13,-9) AK35(14,-9) AK36(15,-9) AK37(16,-9) AK38(17,-9) AK39(18,-9) AK40(19,-9) AK41(20,-9) AL1(-20,-10) AL2(-19,-10) AL3(-18,-10) AL4(-17,-10) AL5(-16,-10) AL6(-15,-10) AL7(-14,-10) AL8(-13,-10) AL9(-12,-10) AL10(-11,-10) AL11(-10,-10) AL12(-9,-10) AL13(-8,-10) AL14(-7,-10) AL15(-6,-10) AL16(-5,-10) AL17(-4,-10) AL18(-3,-10) AL19(-2,-10) AL20(-1,-10) AL21(0,-10) AL22(1,-10) AL23(2,-10) AL24(3,-10) AL25(4,-10) AL26(5,-10) AL27(6,-10) AL28(7,-10) AL29(8,-10) AL30(9,-10) AL31(10,-10) AL32(11,-10) AL33(12,-10) AL34(13,-10) AL35(14,-10) AL36(15,-10) AL37(16,-10) AL38(17,-10) AL39(18,-10) AL40(19,-10) AL41(20,-10) AM1(-20,-11) AM2(-19,-11) AM3(-18,-11) AM4(-17,-11) AM5(-16,-11) AM6(-15,-11) AM7(-14,-11) AM8(-13,-11) AM9(-12,-11) AM10(-11,-11) AM11(-10,-11) AM12(-9,-11) AM13(-8,-11) AM14(-7,-11) AM15(-6,-11) AM16(-5,-11) AM17(-4,-11) AM18(-3,-11) AM19(-2,-11) AM20(-1,-11) AM21(0,-11) AM22(1,-11) AM23(2,-11) AM24(3,-11) AM25(4,-11) AM26(5,-11) AM27(6,-11) AM28(7,-11) AM29(8,-11) AM30(9,-11) AM31(10,-11) AM32(11,-11) AM33(12,-11) AM34(13,-11) AM35(14,-11) AM36(15,-11) AM37(16,-11) AM38(17,-11) AM39(18,-11) AM40(19,-11) AM41(20,-11) AN1(-20,-12) AN2(-19,-12) AN3(-18,-12) AN4(-17,-12) AN5(-16,-12) AN6(-15,-12) AN7(-14,-12) AN8(-13,-12) AN9(-12,-12) AN10(-11,-12) AN11(-10,-12) AN12(-9,-12) AN13(-8,-12) AN14(-7,-12) AN15(-6,-12) AN16(-5,-12) AN17(-4,-12) AN18(-3,-12) AN19(-2,-12) AN20(-1,-12) AN21(0,-12) AN22(1,-12) AN23(2,-12) AN24(3,-12) AN25(4,-12) AN26(5,-12) AN27(6,-12) AN28(7,-12) AN29(8,-12) AN30(9,-12) AN31(10,-12) AN32(11,-12) AN33(12,-12) AN34(13,-12) AN35(14,-12) AN36(15,-12) AN37(16,-12) AN38(17,-12) AN39(18,-12) AN40(19,-12) AN41(20,-12) AP1(-20,-13) AP2(-19,-13) AP3(-18,-13) AP4(-17,-13) AP5(-16,-13) AP6(-15,-13) AP7(-14,-13) AP8(-13,-13) AP9(-12,-13) AP10(-11,-13) AP11(-10,-13) AP12(-9,-13) AP13(-8,-13) AP14(-7,-13) AP15(-6,-13) AP16(-5,-13) AP17(-4,-13) AP18(-3,-13) AP19(-2,-13) AP20(-1,-13) AP21(0,-13) AP22(1,-13) AP23(2,-13) AP24(3,-13) AP25(4,-13) AP26(5,-13) AP27(6,-13) AP28(7,-13) AP29(8,-13) AP30(9,-13) AP31(10,-13) AP32(11,-13) AP33(12,-13) AP34(13,-13) AP35(14,-13) AP36(15,-13) AP37(16,-13) AP38(17,-13) AP39(18,-13) AP40(19,-13) AP41(20,-13) AR1(-20,-14) AR2(-19,-14) AR3(-18,-14) AR4(-17,-14) AR5(-16,-14) AR6(-15,-14) AR7(-14,-14) AR8(-13,-14) AR9(-12,-14) AR10(-11,-14) AR11(-10,-14) AR12(-9,-14) AR13(-8,-14) AR14(-7,-14) AR15(-6,-14) AR16(-5,-14) AR17(-4,-14) AR18(-3,-14) AR19(-2,-14) AR20(-1,-14) AR21(0,-14) AR22(1,-14) AR23(2,-14) AR24(3,-14) AR25(4,-14) AR26(5,-14) AR27(6,-14) AR28(7,-14) AR29(8,-14) AR30(9,-14) AR31(10,-14) AR32(11,-14) AR33(12,-14) AR34(13,-14) AR35(14,-14) AR36(15,-14) AR37(16,-14) AR38(17,-14) AR39(18,-14) AR40(19,-14) AR41(20,-14) AT1(-20,-15) AT2(-19,-15) AT3(-18,-15) AT4(-17,-15) AT5(-16,-15) AT6(-15,-15) AT7(-14,-15) AT8(-13,-15) AT9(-12,-15) AT10(-11,-15) AT11(-10,-15) AT12(-9,-15) AT13(-8,-15) AT14(-7,-15) AT15(-6,-15) AT16(-5,-15) AT17(-4,-15) AT18(-3,-15) AT19(-2,-15) AT20(-1,-15) AT21(0,-15) AT22(1,-15) AT23(2,-15) AT24(3,-15) AT25(4,-15) AT26(5,-15) AT27(6,-15) AT28(7,-15) AT29(8,-15) AT30(9,-15) AT31(10,-15) AT32(11,-15) AT33(12,-15) AT34(13,-15) AT35(14,-15) AT36(15,-15) AT37(16,-15) AT38(17,-15) AT39(18,-15) AT40(19,-15) AT41(20,-15) AU1(-20,-16) AU2(-19,-16) AU3(-18,-16) AU4(-17,-16) AU5(-16,-16) AU6(-15,-16) AU7(-14,-16) AU8(-13,-16) AU9(-12,-16) AU10(-11,-16) AU11(-10,-16) AU12(-9,-16) AU13(-8,-16) AU14(-7,-16) AU15(-6,-16) AU16(-5,-16) AU17(-4,-16) AU18(-3,-16) AU19(-2,-16) AU20(-1,-16) AU21(0,-16) AU22(1,-16) AU23(2,-16) AU24(3,-16) AU25(4,-16) AU26(5,-16) AU27(6,-16) AU28(7,-16) AU29(8,-16) AU30(9,-16) AU31(10,-16) AU32(11,-16) AU33(12,-16) AU34(13,-16) AU35(14,-16) AU36(15,-16) AU37(16,-16) AU38(17,-16) AU39(18,-16) AU40(19,-16) AU41(20,-16) AV1(-20,-17) AV2(-19,-17) AV3(-18,-17) AV4(-17,-17) AV5(-16,-17) AV6(-15,-17) AV7(-14,-17) AV8(-13,-17) AV9(-12,-17) AV10(-11,-17) AV11(-10,-17) AV12(-9,-17) AV13(-8,-17) AV14(-7,-17) AV15(-6,-17) AV16(-5,-17) AV17(-4,-17) AV18(-3,-17) AV19(-2,-17) AV20(-1,-17) AV21(0,-17) AV22(1,-17) AV23(2,-17) AV24(3,-17) AV25(4,-17) AV26(5,-17) AV27(6,-17) AV28(7,-17) AV29(8,-17) AV30(9,-17) AV31(10,-17) AV32(11,-17) AV33(12,-17) AV34(13,-17) AV35(14,-17) AV36(15,-17) AV37(16,-17) AV38(17,-17) AV39(18,-17) AV40(19,-17) AV41(20,-17) AW1(-20,-18) AW2(-19,-18) AW3(-18,-18) AW4(-17,-18) AW5(-16,-18) AW6(-15,-18) AW7(-14,-18) AW8(-13,-18) AW9(-12,-18) AW10(-11,-18) AW11(-10,-18) AW12(-9,-18) AW13(-8,-18) AW14(-7,-18) AW15(-6,-18) AW16(-5,-18) AW17(-4,-18) AW18(-3,-18) AW19(-2,-18) AW20(-1,-18) AW21(0,-18) AW22(1,-18) AW23(2,-18) AW24(3,-18) AW25(4,-18) AW26(5,-18) AW27(6,-18) AW28(7,-18) AW29(8,-18) AW30(9,-18) AW31(10,-18) AW32(11,-18) AW33(12,-18) AW34(13,-18) AW35(14,-18) AW36(15,-18) AW37(16,-18) AW38(17,-18) AW39(18,-18) AW40(19,-18) AW41(20,-18) AY1(-20,-19) AY2(-19,-19) AY3(-18,-19) AY4(-17,-19) AY5(-16,-19) AY6(-15,-19) AY7(-14,-19) AY8(-13,-19) AY9(-12,-19) AY10(-11,-19) AY11(-10,-19) AY12(-9,-19) AY13(-8,-19) AY14(-7,-19) AY15(-6,-19) AY16(-5,-19) AY17(-4,-19) AY18(-3,-19) AY19(-2,-19) AY20(-1,-19) AY21(0,-19) AY22(1,-19) AY23(2,-19) AY24(3,-19) AY25(4,-19) AY26(5,-19) AY27(6,-19) AY28(7,-19) AY29(8,-19) AY30(9,-19) AY31(10,-19) AY32(11,-19) AY33(12,-19) AY34(13,-19) AY35(14,-19) AY36(15,-19) AY37(16,-19) AY38(17,-19) AY39(18,-19) AY40(19,-19) AY41(20,-19) B1(-20,19) B2(-19,19) B3(-18,19) B4(-17,19) B5(-16,19) B6(-15,19) B7(-14,19) B8(-13,19) B9(-12,19) B10(-11,19) B11(-10,19) B12(-9,19) B13(-8,19) B14(-7,19) B15(-6,19) B16(-5,19) B17(-4,19) B18(-3,19) B19(-2,19) B20(-1,19) B21(0,19) B22(1,19) B23(2,19) B24(3,19) B25(4,19) B26(5,19) B27(6,19) B28(7,19) B29(8,19) B30(9,19) B31(10,19) B32(11,19) B33(12,19) B34(13,19) B35(14,19) B36(15,19) B37(16,19) B38(17,19) B39(18,19) B40(19,19) B41(20,19) BA1(-20,-20) BA2(-19,-20) BA3(-18,-20) BA4(-17,-20) BA5(-16,-20) BA6(-15,-20) BA7(-14,-20) BA8(-13,-20) BA9(-12,-20) BA10(-11,-20) BA11(-10,-20) BA12(-9,-20) BA13(-8,-20) BA14(-7,-20) BA15(-6,-20) BA16(-5,-20) BA17(-4,-20) BA18(-3,-20) BA19(-2,-20) BA20(-1,-20) BA21(0,-20) BA22(1,-20) BA23(2,-20) BA24(3,-20) BA25(4,-20) BA26(5,-20) BA27(6,-20) BA28(7,-20) BA29(8,-20) BA30(9,-20) BA31(10,-20) BA32(11,-20) BA33(12,-20) BA34(13,-20) BA35(14,-20) BA36(15,-20) BA37(16,-20) BA38(17,-20) BA39(18,-20) BA40(19,-20) BA41(20,-20) C1(-20,18) C2(-19,18) C3(-18,18) C4(-17,18) C5(-16,18) C6(-15,18) C7(-14,18) C8(-13,18) C9(-12,18) C10(-11,18) C11(-10,18) C12(-9,18) C13(-8,18) C14(-7,18) C15(-6,18) C16(-5,18) C17(-4,18) C18(-3,18) C19(-2,18) C20(-1,18) C21(0,18) C22(1,18) C23(2,18) C24(3,18) C25(4,18) C26(5,18) C27(6,18) C28(7,18) C29(8,18) C30(9,18) C31(10,18) C32(11,18) C33(12,18) C34(13,18) C35(14,18) C36(15,18) C37(16,18) C38(17,18) C39(18,18) C40(19,18) C41(20,18) D1(-20,17) D2(-19,17) D3(-18,17) D4(-17,17) D5(-16,17) D6(-15,17) D7(-14,17) D8(-13,17) D9(-12,17) D10(-11,17) D11(-10,17) D12(-9,17) D13(-8,17) D14(-7,17) D15(-6,17) D16(-5,17) D17(-4,17) D18(-3,17) D19(-2,17) D20(-1,17) D21(0,17) D22(1,17) D23(2,17) D24(3,17) D25(4,17) D26(5,17) D27(6,17) D28(7,17) D29(8,17) D30(9,17) D31(10,17) D32(11,17) D33(12,17) D34(13,17) D35(14,17) D36(15,17) D37(16,17) D38(17,17) D39(18,17) D40(19,17) D41(20,17) E1(-20,16) E2(-19,16) E3(-18,16) E4(-17,16) E5(-16,16) E6(-15,16) E7(-14,16) E8(-13,16) E9(-12,16) E10(-11,16) E11(-10,16) E12(-9,16) E13(-8,16) E14(-7,16) E15(-6,16) E16(-5,16) E17(-4,16) E18(-3,16) E19(-2,16) E20(-1,16) E21(0,16) E22(1,16) E23(2,16) E24(3,16) E25(4,16) E26(5,16) E27(6,16) E28(7,16) E29(8,16) E30(9,16) E31(10,16) E32(11,16) E33(12,16) E34(13,16) E35(14,16) E36(15,16) E37(16,16) E38(17,16) E39(18,16) E40(19,16) E41(20,16) F1(-20,15) F2(-19,15) F3(-18,15) F4(-17,15) F5(-16,15) F6(-15,15) F7(-14,15) F8(-13,15) F9(-12,15) F10(-11,15) F11(-10,15) F12(-9,15) F13(-8,15) F14(-7,15) F15(-6,15) F16(-5,15) F17(-4,15) F18(-3,15) F19(-2,15) F20(-1,15) F21(0,15) F22(1,15) F23(2,15) F24(3,15) F25(4,15) F26(5,15) F27(6,15) F28(7,15) F29(8,15) F30(9,15) F31(10,15) F32(11,15) F33(12,15) F34(13,15) F35(14,15) F36(15,15) F37(16,15) F38(17,15) F39(18,15) F40(19,15) F41(20,15) G1(-20,14) G2(-19,14) G3(-18,14) G4(-17,14) G5(-16,14) G6(-15,14) G7(-14,14) G8(-13,14) G9(-12,14) G10(-11,14) G11(-10,14) G12(-9,14) G13(-8,14) G14(-7,14) G15(-6,14) G16(-5,14) G17(-4,14) G18(-3,14) G19(-2,14) G20(-1,14) G21(0,14) G22(1,14) G23(2,14) G24(3,14) G25(4,14) G26(5,14) G27(6,14) G28(7,14) G29(8,14) G30(9,14) G31(10,14) G32(11,14) G33(12,14) G34(13,14) G35(14,14) G36(15,14) G37(16,14) G38(17,14) G39(18,14) G40(19,14) G41(20,14) H1(-20,13) H2(-19,13) H3(-18,13) H4(-17,13) H5(-16,13) H6(-15,13) H7(-14,13) H8(-13,13) H9(-12,13) H10(-11,13) H11(-10,13) H12(-9,13) H13(-8,13) H14(-7,13) H15(-6,13) H16(-5,13) H17(-4,13) H18(-3,13) H19(-2,13) H20(-1,13) H21(0,13) H22(1,13) H23(2,13) H24(3,13) H25(4,13) H26(5,13) H27(6,13) H28(7,13) H29(8,13) H30(9,13) H31(10,13) H32(11,13) H33(12,13) H34(13,13) H35(14,13) H36(15,13) H37(16,13) H38(17,13) H39(18,13) H40(19,13) H41(20,13) J1(-20,12) J2(-19,12) J3(-18,12) J4(-17,12) J5(-16,12) J6(-15,12) J7(-14,12) J8(-13,12) J9(-12,12) J10(-11,12) J11(-10,12) J12(-9,12) J13(-8,12) J14(-7,12) J15(-6,12) J16(-5,12) J17(-4,12) J18(-3,12) J19(-2,12) J20(-1,12) J21(0,12) J22(1,12) J23(2,12) J24(3,12) J25(4,12) J26(5,12) J27(6,12) J28(7,12) J29(8,12) J30(9,12) J31(10,12) J32(11,12) J33(12,12) J34(13,12) J35(14,12) J36(15,12) J37(16,12) J38(17,12) J39(18,12) J40(19,12) J41(20,12) K1(-20,11) K2(-19,11) K3(-18,11) K4(-17,11) K5(-16,11) K6(-15,11) K7(-14,11) K8(-13,11) K9(-12,11) K10(-11,11) K11(-10,11) K12(-9,11) K13(-8,11) K14(-7,11) K15(-6,11) K16(-5,11) K17(-4,11) K18(-3,11) K19(-2,11) K20(-1,11) K21(0,11) K22(1,11) K23(2,11) K24(3,11) K25(4,11) K26(5,11) K27(6,11) K28(7,11) K29(8,11) K30(9,11) K31(10,11) K32(11,11) K33(12,11) K34(13,11) K35(14,11) K36(15,11) K37(16,11) K38(17,11) K39(18,11) K40(19,11) K41(20,11) L1(-20,10) L2(-19,10) L3(-18,10) L4(-17,10) L5(-16,10) L6(-15,10) L7(-14,10) L8(-13,10) L9(-12,10) L10(-11,10) L11(-10,10) L12(-9,10) L13(-8,10) L14(-7,10) L15(-6,10) L16(-5,10) L17(-4,10) L18(-3,10) L19(-2,10) L20(-1,10) L21(0,10) L22(1,10) L23(2,10) L24(3,10) L25(4,10) L26(5,10) L27(6,10) L28(7,10) L29(8,10) L30(9,10) L31(10,10) L32(11,10) L33(12,10) L34(13,10) L35(14,10) L36(15,10) L37(16,10) L38(17,10) L39(18,10) L40(19,10) L41(20,10) M1(-20,9) M2(-19,9) M3(-18,9) M4(-17,9) M5(-16,9) M6(-15,9) M7(-14,9) M8(-13,9) M9(-12,9) M10(-11,9) M11(-10,9) M12(-9,9) M13(-8,9) M14(-7,9) M15(-6,9) M16(-5,9) M17(-4,9) M18(-3,9) M19(-2,9) M20(-1,9) M21(0,9) M22(1,9) M23(2,9) M24(3,9) M25(4,9) M26(5,9) M27(6,9) M28(7,9) M29(8,9) M30(9,9) M31(10,9) M32(11,9) M33(12,9) M34(13,9) M35(14,9) M36(15,9) M37(16,9) M38(17,9) M39(18,9) M40(19,9) M41(20,9) N1(-20,8) N2(-19,8) N3(-18,8) N4(-17,8) N5(-16,8) N6(-15,8) N7(-14,8) N8(-13,8) N9(-12,8) N10(-11,8) N11(-10,8) N12(-9,8) N13(-8,8) N14(-7,8) N15(-6,8) N16(-5,8) N17(-4,8) N18(-3,8) N19(-2,8) N20(-1,8) N21(0,8) N22(1,8) N23(2,8) N24(3,8) N25(4,8) N26(5,8) N27(6,8) N28(7,8) N29(8,8) N30(9,8) N31(10,8) N32(11,8) N33(12,8) N34(13,8) N35(14,8) N36(15,8) N37(16,8) N38(17,8) N39(18,8) N40(19,8) N41(20,8) P1(-20,7) P2(-19,7) P3(-18,7) P4(-17,7) P5(-16,7) P6(-15,7) P7(-14,7) P8(-13,7) P9(-12,7) P10(-11,7) P11(-10,7) P12(-9,7) P13(-8,7) P14(-7,7) P15(-6,7) P16(-5,7) P17(-4,7) P18(-3,7) P19(-2,7) P20(-1,7) P21(0,7) P22(1,7) P23(2,7) P24(3,7) P25(4,7) P26(5,7) P27(6,7) P28(7,7) P29(8,7) P30(9,7) P31(10,7) P32(11,7) P33(12,7) P34(13,7) P35(14,7) P36(15,7) P37(16,7) P38(17,7) P39(18,7) P40(19,7) P41(20,7) R1(-20,6) R2(-19,6) R3(-18,6) R4(-17,6) R5(-16,6) R6(-15,6) R7(-14,6) R8(-13,6) R9(-12,6) R10(-11,6) R11(-10,6) R12(-9,6) R13(-8,6) R14(-7,6) R15(-6,6) R16(-5,6) R17(-4,6) R18(-3,6) R19(-2,6) R20(-1,6) R21(0,6) R22(1,6) R23(2,6) R24(3,6) R25(4,6) R26(5,6) R27(6,6) R28(7,6) R29(8,6) R30(9,6) R31(10,6) R32(11,6) R33(12,6) R34(13,6) R35(14,6) R36(15,6) R37(16,6) R38(17,6) R39(18,6) R40(19,6) R41(20,6) T1(-20,5) T2(-19,5) T3(-18,5) T4(-17,5) T5(-16,5) T6(-15,5) T7(-14,5) T8(-13,5) T9(-12,5) T10(-11,5) T11(-10,5) T12(-9,5) T13(-8,5) T14(-7,5) T15(-6,5) T16(-5,5) T17(-4,5) T18(-3,5) T19(-2,5) T20(-1,5) T21(0,5) T22(1,5) T23(2,5) T24(3,5) T25(4,5) T26(5,5) T27(6,5) T28(7,5) T29(8,5) T30(9,5) T31(10,5) T32(11,5) T33(12,5) T34(13,5) T35(14,5) T36(15,5) T37(16,5) T38(17,5) T39(18,5) T40(19,5) T41(20,5) U1(-20,4) U2(-19,4) U3(-18,4) U4(-17,4) U5(-16,4) U6(-15,4) U7(-14,4) U8(-13,4) U9(-12,4) U10(-11,4) U11(-10,4) U12(-9,4) U13(-8,4) U14(-7,4) U15(-6,4) U16(-5,4) U17(-4,4) U18(-3,4) U19(-2,4) U20(-1,4) U21(0,4) U22(1,4) U23(2,4) U24(3,4) U25(4,4) U26(5,4) U27(6,4) U28(7,4) U29(8,4) U30(9,4) U31(10,4) U32(11,4) U33(12,4) U34(13,4) U35(14,4) U36(15,4) U37(16,4) U38(17,4) U39(18,4) U40(19,4) U41(20,4) V1(-20,3) V2(-19,3) V3(-18,3) V4(-17,3) V5(-16,3) V6(-15,3) V7(-14,3) V8(-13,3) V9(-12,3) V10(-11,3) V11(-10,3) V12(-9,3) V13(-8,3) V14(-7,3) V15(-6,3) V16(-5,3) V17(-4,3) V18(-3,3) V19(-2,3) V20(-1,3) V21(0,3) V22(1,3) V23(2,3) V24(3,3) V25(4,3) V26(5,3) V27(6,3) V28(7,3) V29(8,3) V30(9,3) V31(10,3) V32(11,3) V33(12,3) V34(13,3) V35(14,3) V36(15,3) V37(16,3) V38(17,3) V39(18,3) V40(19,3) V41(20,3) W1(-20,2) W2(-19,2) W3(-18,2) W4(-17,2) W5(-16,2) W6(-15,2) W7(-14,2) W8(-13,2) W9(-12,2) W10(-11,2) W11(-10,2) W12(-9,2) W13(-8,2) W14(-7,2) W15(-6,2) W16(-5,2) W17(-4,2) W18(-3,2) W19(-2,2) W20(-1,2) W21(0,2) W22(1,2) W23(2,2) W24(3,2) W25(4,2) W26(5,2) W27(6,2) W28(7,2) W29(8,2) W30(9,2) W31(10,2) W32(11,2) W33(12,2) W34(13,2) W35(14,2) W36(15,2) W37(16,2) W38(17,2) W39(18,2) W40(19,2) W41(20,2) Y1(-20,1) Y2(-19,1) Y3(-18,1) Y4(-17,1) Y5(-16,1) Y6(-15,1) Y7(-14,1) Y8(-13,1) Y9(-12,1) Y10(-11,1) Y11(-10,1) Y12(-9,1) Y13(-8,1) Y14(-7,1) Y15(-6,1) Y16(-5,1) Y17(-4,1) Y18(-3,1) Y19(-2,1) Y20(-1,1) Y21(0,1) Y22(1,1) Y23(2,1) Y24(3,1) Y25(4,1) Y26(5,1) Y27(6,1) Y28(7,1) Y29(8,1) Y30(9,1) Y31(10,1) Y32(11,1) Y33(12,1) Y34(13,1) Y35(14,1) Y36(15,1) Y37(16,1) Y38(17,1) Y39(18,1) Y40(19,1) Y41(20,1)
Top Overlay:
  circle w0.25: c-21.9,20 r0.125
  region: -20.25,21.25 -21.25,20.25 -21.25,21.25
  lines w0.2: -21.25,20.25 -20.25,21.25 ; -21.25,-21.25 -21.25,21.25 21.25,21.25 21.25,-21.25 -21.25,-21.25
Mechanical 13:
  lines w0.1: -21.25,-21.25 -21.25,21.25 21.25,21.25 21.25,-21.25 -21.25,-21.25
Mechanical 15:
  lines w0.1: -0.5,0 0.5,0 ; 0,-0.5 0,0.5 ; -22.25,-22.25 -22.25,22.25 22.25,22.25 22.25,-22.25 -22.25,-22.25
3D body: height 0, standoff 0, extent -21.25,-21.25 21.25,21.25